# Altium schematic symbol library EL-sense_Thermistors.SchLib: 2 symbols
Pins are listed as number, name and electrical type; pins without a type are passive.

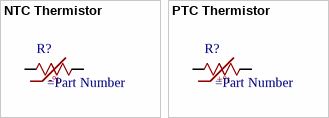
[diagram p0: symbols NTC Thermistor to PTC Thermistor]

## NTC Thermistor
designator R?
pins: 1, 2
text: -°t

## PTC Thermistor
designator R?
pins: 1, 2
text: +°t